# EAGLE library part IR2183 (library IR2183)
MOSFET DRVR 600V 2.3A 2-OUT Hi/Lo Side Half Brdg Inv/Non-Inv 8-Pin PDIP Check availability <https://pricing.snapeda.com/parts/IR2183/Infineon/view-part?ref=eda>
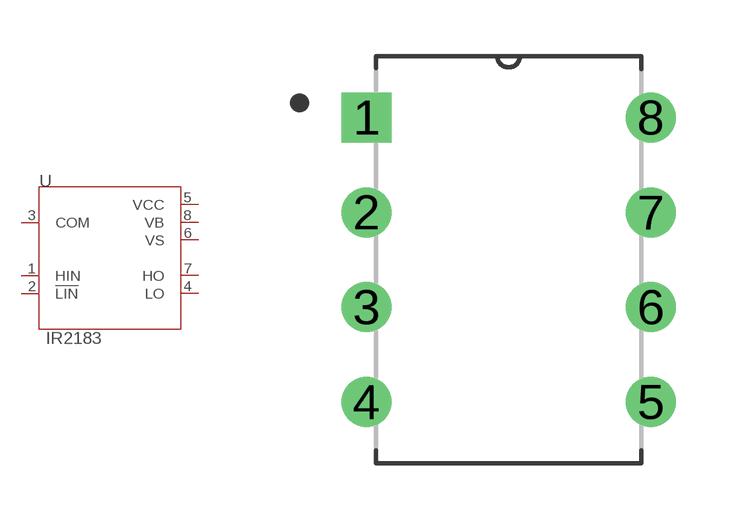
[diagram p0: symbol with the pads of DIP762W45P254L1092H533Q8; footprint DIP762W45P254L1092H533Q8]

Designator prefix U

## IR2183 (Availability: In Stock; Description: Half-Bridge Gate Driver IC Inverting, Non-Inverting 14-SOIC; MF: Infineon; MP: IR2183; Package: DIP-8 International Rectifier; Price: None; Purchase-URL: https://pricing.snapeda.com/search/part/IR2183/?ref=eda)  [DIP762W45P254L1092H533Q8]
1  HIN  in
2  !LIN  in
3  COM
4  LO  out
5  VCC  pwr
6  VS  pwr
7  HO  out
8  VB  pwr

## Footprint DIP762W45P254L1092H533Q8 (pad centres in mm)
drill 0.83 square: 1 -3.81,3.81
drill 0.83: 2 -3.81,1.27; 3 -3.81,-1.27; 4 -3.81,-3.81; 5 3.81,-3.81; 6 3.81,-1.27; 7 3.81,1.27; 8 3.81,3.81